# Altium footprint library CONN_W2B_JST.PcbLib: 168 footprints (part 5 of 11)
Each footprint in its own frame and in the unit in brackets; x right, y up, seen from the top. Pads: shape width x height; smd on the part's side, far side on the other; paste and mask are expansions set on the pad; w line width, h text height; cw(c..) or ccw(c..) is an arc to the next point about the centre after c.
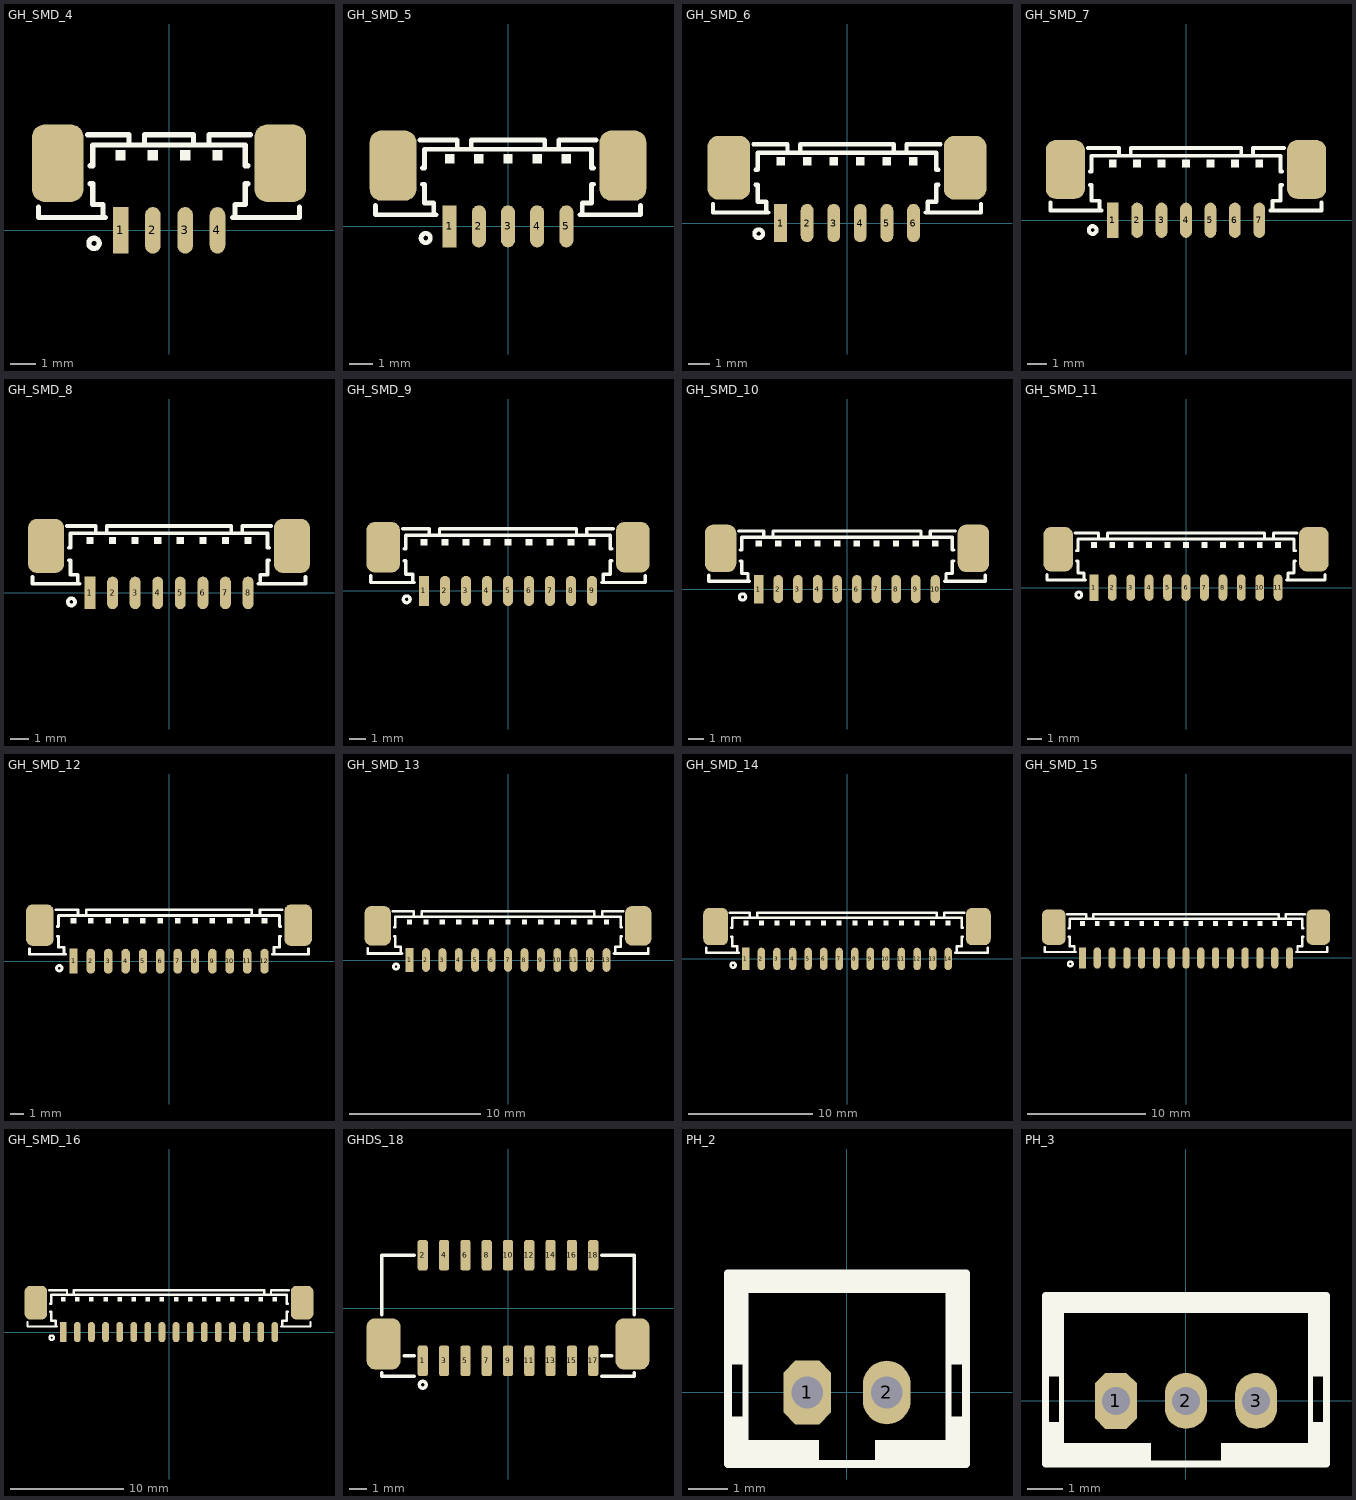
[diagram p4: the footprints below, top view; thin cyan lines are the x and y axes]

## GH_SMD_4 [mm] "JST GH Series, pitch: 1.25mm, 1.0A/50v, SMD"
pads (6):
  rect 0.6x1.8 smd: 1(-1.875,0)
  oval 0.6x1.8 smd: 2(-0.625,0) 3(0.625,0) 4(1.875,0)
  rrect50% 2x3 smd: ""(-4.3,2.6) ""(4.3,2.6)
Top Overlay:
  circle w0.2: c-2.9,-0.5 r0.2
  rectangle: 1.675,2.7 2.075,3.1
  rectangle: 0.425,2.7 0.825,3.1
  rectangle: -0.825,2.7 -0.425,3.1
  rectangle: -2.075,2.7 -1.675,3.1
  lines w0.2: -5.05,0.9 -5.05,0.5 -2.45,0.5 ; -3.15,3.7 -1.55,3.7 -1.55,3.3 ; -3.05,1.8 -2.95,1.8 -2.95,1 -2.55,1 -2.55,0.5 ; -3.05,2.5 -2.95,2.5 -2.95,3.3 2.95,3.3 2.95,2.5 3.05,2.5 ; -0.95,3.3 -0.95,3.7 0.95,3.7 0.95,3.3 ; 1.55,3.3 1.55,3.7 3.15,3.7 ; 2.45,0.5 5.05,0.5 5.05,0.9 ; 2.55,0.5 2.55,1 2.95,1 2.95,1.8 3.05,1.8
3D body "JST - GH - SMD (V) - 4Pin - 1.25mm.stp": height 4.66, standoff 0, extent -4.974,-0.592 4.974,3.649

## GH_SMD_5 [mm] "JST GH Series, pitch: 1.25mm, 1.0A/50v, SMD"
pads (7):
  rect 0.6x1.8 smd: 1(-2.5,0)
  oval 0.6x1.8 smd: 2(-1.25,0) 3(0,0) 4(1.25,0) 5(2.5,0)
  rrect50% 2x3 smd: ""(-4.925,2.6) ""(4.925,2.6)
Top Overlay:
  circle w0.2: c-3.525,-0.5 r0.2
  rectangle: -2.7,2.7 -2.3,3.1
  rectangle: -1.45,2.7 -1.05,3.1
  rectangle: -0.2,2.7 0.2,3.1
  rectangle: 1.05,2.7 1.45,3.1
  rectangle: 2.3,2.7 2.7,3.1
  lines w0.2: -5.675,0.9 -5.675,0.5 -3.075,0.5 ; -3.775,3.7 -2.175,3.7 -2.175,3.3 ; -3.675,1.8 -3.575,1.8 -3.575,1 -3.175,1 -3.175,0.5 ; -3.675,2.5 -3.575,2.5 -3.575,3.3 3.575,3.3 3.575,2.5 3.675,2.5 ; -1.575,3.3 -1.575,3.7 1.575,3.7 1.575,3.3 ; 2.175,3.3 2.175,3.7 3.775,3.7 ; 3.075,0.5 5.675,0.5 5.675,0.9 ; 3.175,0.5 3.175,1 3.575,1 3.575,1.8 3.675,1.8
3D body "JST - GH - SMD (V) - 5Pin - 1.25mm.stp": height 4.66, standoff 0, extent -5.599,-0.592 5.599,3.649

## GH_SMD_6 [mm] "JST GH Series, pitch: 1.25mm, 1.0A/50v, SMD"
pads (8):
  rect 0.6x1.8 smd: 1(-3.125,0)
  oval 0.6x1.8 smd: 2(-1.875,0) 3(-0.625,0) 4(0.625,0) 5(1.875,0) 6(3.125,0)
  rrect50% 2x3 smd: ""(-5.55,2.6) ""(5.55,2.6)
Top Overlay:
  circle w0.2: c-4.15,-0.5 r0.2
  rectangle: 2.925,2.7 3.325,3.1
  rectangle: 1.675,2.7 2.075,3.1
  rectangle: 0.425,2.7 0.825,3.1
  rectangle: -0.825,2.7 -0.425,3.1
  rectangle: -2.075,2.7 -1.675,3.1
  rectangle: -3.325,2.7 -2.925,3.1
  lines w0.2: -6.3,0.9 -6.3,0.5 -3.7,0.5 ; -4.4,3.7 -2.8,3.7 -2.8,3.3 ; -4.3,1.8 -4.2,1.8 -4.2,1 -3.8,1 -3.8,0.5 ; -4.3,2.5 -4.2,2.5 -4.2,3.3 4.2,3.3 4.2,2.5 4.3,2.5 ; -2.2,3.3 -2.2,3.7 2.2,3.7 2.2,3.3 ; 2.8,3.3 2.8,3.7 4.4,3.7 ; 3.7,0.5 6.3,0.5 6.3,0.9 ; 3.8,0.5 3.8,1 4.2,1 4.2,1.8 4.3,1.8
3D body "JST - GH - SMD (V) - 6Pin - 1.25mm.stp": height 4.66, standoff 0, extent -6.224,-0.592 6.224,3.649

## GH_SMD_7 [mm] "JST GH Series, pitch: 1.25mm, 1.0A/50v, SMD"
pads (9):
  rect 0.6x1.8 smd: 1(-3.75,0)
  oval 0.6x1.8 smd: 2(-2.5,0) 3(-1.25,0) 4(0,0) 5(1.25,0) 6(2.5,0) 7(3.75,0)
  rrect50% 2x3 smd: ""(-6.175,2.6) ""(6.175,2.6)
Top Overlay:
  circle w0.2: c-4.775,-0.5 r0.2
  rectangle: -3.95,2.7 -3.55,3.1
  rectangle: -2.7,2.7 -2.3,3.1
  rectangle: -1.45,2.7 -1.05,3.1
  rectangle: -0.2,2.7 0.2,3.1
  rectangle: 1.05,2.7 1.45,3.1
  rectangle: 2.3,2.7 2.7,3.1
  rectangle: 3.55,2.7 3.95,3.1
  lines w0.2: -6.925,0.9 -6.925,0.5 -4.325,0.5 ; -5.025,3.7 -3.425,3.7 -3.425,3.3 ; -4.925,1.8 -4.825,1.8 -4.825,1 -4.425,1 -4.425,0.5 ; -4.925,2.5 -4.825,2.5 -4.825,3.3 4.825,3.3 4.825,2.5 4.925,2.5 ; -2.825,3.3 -2.825,3.7 2.825,3.7 2.825,3.3 ; 3.425,3.3 3.425,3.7 5.025,3.7 ; 4.325,0.5 6.925,0.5 6.925,0.9 ; 4.425,0.5 4.425,1 4.825,1 4.825,1.8 4.925,1.8
3D body "JST - GH - SMD (V) - 7Pin - 1.25mm.stp": height 4.66, standoff 0, extent -6.849,-0.592 6.849,3.649

## GH_SMD_8 [mm] "JST GH Series, pitch: 1.25mm, 1.0A/50v, SMD"
pads (10):
  rect 0.6x1.8 smd: 1(-4.375,0)
  oval 0.6x1.8 smd: 2(-3.125,0) 3(-1.875,0) 4(-0.625,0) 5(0.625,0) 6(1.875,0) 7(3.125,0) 8(4.375,0)
  rrect50% 2x3 smd: ""(-6.8,2.6) ""(6.8,2.6)
Top Overlay:
  circle w0.2: c-5.4,-0.5 r0.2
  rectangle: 4.175,2.7 4.575,3.1
  rectangle: 2.925,2.7 3.325,3.1
  rectangle: 1.675,2.7 2.075,3.1
  rectangle: 0.425,2.7 0.825,3.1
  rectangle: -0.825,2.7 -0.425,3.1
  rectangle: -2.075,2.7 -1.675,3.1
  rectangle: -3.325,2.7 -2.925,3.1
  rectangle: -4.575,2.7 -4.175,3.1
  lines w0.2: -7.55,0.9 -7.55,0.5 -4.95,0.5 ; -5.65,3.7 -4.05,3.7 -4.05,3.3 ; -5.55,1.8 -5.45,1.8 -5.45,1 -5.05,1 -5.05,0.5 ; -5.55,2.5 -5.45,2.5 -5.45,3.3 5.45,3.3 5.45,2.5 5.55,2.5 ; -3.45,3.3 -3.45,3.7 3.45,3.7 3.45,3.3 ; 4.05,3.3 4.05,3.7 5.65,3.7 ; 4.95,0.5 7.55,0.5 7.55,0.9 ; 5.05,0.5 5.05,1 5.45,1 5.45,1.8 5.55,1.8
3D body "JST - GH - SMD (V) - 8Pin - 1.25mm.stp": height 4.66, standoff 0, extent -7.474,-0.592 7.474,3.649

## GH_SMD_9 [mm] "JST GH Series, pitch: 1.25mm, 1.0A/50v, SMD"
pads (11):
  rect 0.6x1.8 smd: 1(-5,0)
  oval 0.6x1.8 smd: 2(-3.75,0) 3(-2.5,0) 4(-1.25,0) 5(0,0) 6(1.25,0) 7(2.5,0) 8(3.75,0) 9(5,0)
  rrect50% 2x3 smd: ""(-7.425,2.6) ""(7.425,2.6)
Top Overlay:
  circle w0.2: c-6.025,-0.5 r0.2
  rectangle: -5.2,2.7 -4.8,3.1
  rectangle: -3.95,2.7 -3.55,3.1
  rectangle: -2.7,2.7 -2.3,3.1
  rectangle: -1.45,2.7 -1.05,3.1
  rectangle: -0.2,2.7 0.2,3.1
  rectangle: 1.05,2.7 1.45,3.1
  rectangle: 2.3,2.7 2.7,3.1
  rectangle: 3.55,2.7 3.95,3.1
  rectangle: 4.8,2.7 5.2,3.1
  lines w0.2: -8.175,0.9 -8.175,0.5 -5.575,0.5 ; -6.275,3.7 -4.675,3.7 -4.675,3.3 ; -6.175,1.8 -6.075,1.8 -6.075,1 -5.675,1 -5.675,0.5 ; -6.175,2.5 -6.075,2.5 -6.075,3.3 6.075,3.3 6.075,2.5 6.175,2.5 ; -4.075,3.3 -4.075,3.7 4.075,3.7 4.075,3.3 ; 4.675,3.3 4.675,3.7 6.275,3.7 ; 5.575,0.5 8.175,0.5 8.175,0.9 ; 5.675,0.5 5.675,1 6.075,1 6.075,1.8 6.175,1.8
3D body "JST - GH - SMD (V) - 9Pin - 1.25mm.stp": height 4.66, standoff 0, extent -8.099,-0.592 8.099,3.649

## GH_SMD_10 [mm] "JST GH Series, pitch: 1.25mm, 1.0A/50v, SMD"
pads (12):
  rect 0.6x1.8 smd: 1(-5.625,0)
  oval 0.6x1.8 smd: 2(-4.375,0) 3(-3.125,0) 4(-1.875,0) 5(-0.625,0) 6(0.625,0) 7(1.875,0) 8(3.125,0) 9(4.375,0) 10(5.625,0)
  rrect50% 2x3 smd: ""(-8.05,2.6) ""(8.05,2.6)
Top Overlay:
  circle w0.2: c-6.65,-0.5 r0.2
  rectangle: 5.425,2.7 5.825,3.1
  rectangle: 4.175,2.7 4.575,3.1
  rectangle: 2.925,2.7 3.325,3.1
  rectangle: 1.675,2.7 2.075,3.1
  rectangle: 0.425,2.7 0.825,3.1
  rectangle: -0.825,2.7 -0.425,3.1
  rectangle: -2.075,2.7 -1.675,3.1
  rectangle: -3.325,2.7 -2.925,3.1
  rectangle: -4.575,2.7 -4.175,3.1
  rectangle: -5.825,2.7 -5.425,3.1
  lines w0.2: -8.8,0.9 -8.8,0.5 -6.2,0.5 ; -6.9,3.7 -5.3,3.7 -5.3,3.3 ; -6.8,1.8 -6.7,1.8 -6.7,1 -6.3,1 -6.3,0.5 ; -6.8,2.5 -6.7,2.5 -6.7,3.3 6.7,3.3 6.7,2.5 6.8,2.5 ; -4.7,3.3 -4.7,3.7 4.7,3.7 4.7,3.3 ; 5.3,3.3 5.3,3.7 6.9,3.7 ; 6.2,0.5 8.8,0.5 8.8,0.9 ; 6.3,0.5 6.3,1 6.7,1 6.7,1.8 6.8,1.8
3D body "JST - GH - SMD (V) - 10Pin - 1.25mm.stp": height 4.66, standoff 0, extent -8.724,-0.592 8.724,3.649

## GH_SMD_11 [mm] "JST GH Series, pitch: 1.25mm, 1.0A/50v, SMD"
pads (13):
  rect 0.6x1.8 smd: 1(-6.25,0)
  oval 0.6x1.8 smd: 2(-5,0) 3(-3.75,0) 4(-2.5,0) 5(-1.25,0) 6(0,0) 7(1.25,0) 8(2.5,0) 9(3.75,0) 10(5,0) 11(6.25,0)
  rrect50% 2x3 smd: ""(-8.675,2.6) ""(8.675,2.6)
Top Overlay:
  circle w0.2: c-7.275,-0.5 r0.2
  rectangle: -6.45,2.7 -6.05,3.1
  rectangle: -5.2,2.7 -4.8,3.1
  rectangle: -3.95,2.7 -3.55,3.1
  rectangle: -2.7,2.7 -2.3,3.1
  rectangle: -1.45,2.7 -1.05,3.1
  rectangle: -0.2,2.7 0.2,3.1
  rectangle: 1.05,2.7 1.45,3.1
  rectangle: 2.3,2.7 2.7,3.1
  rectangle: 3.55,2.7 3.95,3.1
  rectangle: 4.8,2.7 5.2,3.1
  rectangle: 6.05,2.7 6.45,3.1
  lines w0.2: -9.425,0.9 -9.425,0.5 -6.825,0.5 ; -7.525,3.7 -5.925,3.7 -5.925,3.3 ; -7.425,1.8 -7.325,1.8 -7.325,1 -6.925,1 -6.925,0.5 ; -7.425,2.5 -7.325,2.5 -7.325,3.3 7.325,3.3 7.325,2.5 7.425,2.5 ; -5.325,3.3 -5.325,3.7 5.325,3.7 5.325,3.3 ; 5.925,3.3 5.925,3.7 7.525,3.7 ; 6.825,0.5 9.425,0.5 9.425,0.9 ; 6.925,0.5 6.925,1 7.325,1 7.325,1.8 7.425,1.8
3D body "JST - GH - SMD (V) - 11Pin - 1.25mm.stp": height 4.66, standoff 0, extent -9.348,-0.592 9.348,3.649

## GH_SMD_12 [mm] "JST GH Series, pitch: 1.25mm, 1.0A/50v, SMD"
pads (14):
  rect 0.6x1.8 smd: 1(-6.875,0)
  oval 0.6x1.8 smd: 2(-5.625,0) 3(-4.375,0) 4(-3.125,0) 5(-1.875,0) 6(-0.625,0) 7(0.625,0) 8(1.875,0) 9(3.125,0) 10(4.375,0) 11(5.625,0) 12(6.875,0)
  rrect50% 2x3 smd: ""(-9.3,2.6) ""(9.3,2.6)
Top Overlay:
  circle w0.2: c-7.9,-0.5 r0.2
  rectangle: 6.675,2.7 7.075,3.1
  rectangle: 5.425,2.7 5.825,3.1
  rectangle: 4.175,2.7 4.575,3.1
  rectangle: 2.925,2.7 3.325,3.1
  rectangle: 1.675,2.7 2.075,3.1
  rectangle: 0.425,2.7 0.825,3.1
  rectangle: -0.825,2.7 -0.425,3.1
  rectangle: -2.075,2.7 -1.675,3.1
  rectangle: -3.325,2.7 -2.925,3.1
  rectangle: -4.575,2.7 -4.175,3.1
  rectangle: -5.825,2.7 -5.425,3.1
  rectangle: -7.075,2.7 -6.675,3.1
  lines w0.2: -10.05,0.9 -10.05,0.5 -7.45,0.5 ; -8.15,3.7 -6.55,3.7 -6.55,3.3 ; -8.05,1.8 -7.95,1.8 -7.95,1 -7.55,1 -7.55,0.5 ; -8.05,2.5 -7.95,2.5 -7.95,3.3 7.95,3.3 7.95,2.5 8.05,2.5 ; -5.95,3.3 -5.95,3.7 5.95,3.7 5.95,3.3 ; 6.55,3.3 6.55,3.7 8.15,3.7 ; 7.45,0.5 10.05,0.5 10.05,0.9 ; 7.55,0.5 7.55,1 7.95,1 7.95,1.8 8.05,1.8
3D body "JST - GH - SMD (V) - 12Pin - 1.25mm.stp": height 4.66, standoff 0, extent -9.973,-0.592 9.973,3.649

## GH_SMD_13 [mm] "JST GH Series, pitch: 1.25mm, 1.0A/50v, SMD"
pads (15):
  rect 0.6x1.8 smd: 1(-7.5,0)
  oval 0.6x1.8 smd: 2(-6.25,0) 3(-5,0) 4(-3.75,0) 5(-2.5,0) 6(-1.25,0) 7(0,0) 8(1.25,0) 9(2.5,0) 10(3.75,0) 11(5,0) 12(6.25,0) 13(7.5,0)
  rrect50% 2x3 smd: ""(-9.925,2.6) ""(9.925,2.6)
Top Overlay:
  circle w0.2: c-8.525,-0.5 r0.2
  rectangle: 7.3,2.7 7.7,3.1
  rectangle: 6.05,2.7 6.45,3.1
  rectangle: 4.8,2.7 5.2,3.1
  rectangle: 3.55,2.7 3.95,3.1
  rectangle: 2.3,2.7 2.7,3.1
  rectangle: 1.05,2.7 1.45,3.1
  rectangle: -0.2,2.7 0.2,3.1
  rectangle: -1.45,2.7 -1.05,3.1
  rectangle: -2.7,2.7 -2.3,3.1
  rectangle: -3.95,2.7 -3.55,3.1
  rectangle: -5.2,2.7 -4.8,3.1
  rectangle: -6.45,2.7 -6.05,3.1
  rectangle: -7.7,2.7 -7.3,3.1
  lines w0.2: -10.675,0.9 -10.675,0.5 -8.075,0.5 ; -8.775,3.7 -7.175,3.7 -7.175,3.3 ; -8.675,1.8 -8.575,1.8 -8.575,1 -8.175,1 -8.175,0.5 ; -8.675,2.5 -8.575,2.5 -8.575,3.3 8.575,3.3 8.575,2.5 8.675,2.5 ; -6.575,3.3 -6.575,3.7 6.575,3.7 6.575,3.3 ; 7.175,3.3 7.175,3.7 8.775,3.7 ; 8.075,0.5 10.675,0.5 10.675,0.9 ; 8.175,0.5 8.175,1 8.575,1 8.575,1.8 8.675,1.8
3D body "JST - GH - SMD (V) - 13Pin - 1.25mm.stp": height 4.66, standoff 0, extent -10.598,-0.592 10.598,3.649

## GH_SMD_14 [mm] "JST GH Series, pitch: 1.25mm, 1.0A/50v, SMD"
pads (16):
  rect 0.6x1.8 smd: 1(-8.125,0)
  oval 0.6x1.8 smd: 2(-6.875,0) 3(-5.625,0) 4(-4.375,0) 5(-3.125,0) 6(-1.875,0) 7(-0.625,0) 8(0.625,0) 9(1.875,0) 10(3.125,0) 11(4.375,0) 12(5.625,0) 13(6.875,0) 14(8.125,0)
  rrect50% 2x3 smd: ""(-10.55,2.6) ""(10.55,2.6)
Top Overlay:
  circle w0.2: c-9.15,-0.5 r0.2
  rectangle: 7.925,2.7 8.325,3.1
  rectangle: 6.675,2.7 7.075,3.1
  rectangle: 5.425,2.7 5.825,3.1
  rectangle: 4.175,2.7 4.575,3.1
  rectangle: 2.925,2.7 3.325,3.1
  rectangle: 1.675,2.7 2.075,3.1
  rectangle: 0.425,2.7 0.825,3.1
  rectangle: -0.825,2.7 -0.425,3.1
  rectangle: -2.075,2.7 -1.675,3.1
  rectangle: -3.325,2.7 -2.925,3.1
  rectangle: -4.575,2.7 -4.175,3.1
  rectangle: -5.825,2.7 -5.425,3.1
  rectangle: -7.075,2.7 -6.675,3.1
  rectangle: -8.325,2.7 -7.925,3.1
  lines w0.2: -11.3,0.9 -11.3,0.5 -8.7,0.5 ; -9.4,3.7 -7.8,3.7 -7.8,3.3 ; -9.3,1.8 -9.2,1.8 -9.2,1 -8.8,1 -8.8,0.5 ; -9.3,2.5 -9.2,2.5 -9.2,3.3 9.2,3.3 9.2,2.5 9.3,2.5 ; -7.2,3.3 -7.2,3.7 7.2,3.7 7.2,3.3 ; 7.8,3.3 7.8,3.7 9.4,3.7 ; 8.7,0.5 11.3,0.5 11.3,0.9 ; 8.8,0.5 8.8,1 9.2,1 9.2,1.8 9.3,1.8
3D body "JST - GH - SMD (V) - 14Pin - 1.25mm.stp": height 4.66, standoff 0, extent -11.223,-0.592 11.223,3.649

## GH_SMD_15 [mm] "JST GH Series, pitch: 1.25mm, 1.0A/50v, SMD"
pads (17):
  rect 0.6x1.8 smd: 1(-8.75,0)
  oval 0.6x1.8 smd: 2(-7.5,0) 3(-6.25,0) 4(-5,0) 5(-3.75,0) 6(-2.5,0) 7(-1.25,0) 8(0,0) 9(1.25,0) 10(2.5,0) 11(3.75,0) 12(5,0) 13(6.25,0) 14(7.5,0) 15(8.75,0)
  rrect50% 2x3 smd: ""(-11.175,2.6) ""(11.175,2.6)
Top Overlay:
  circle w0.2: c-9.775,-0.5 r0.2
  rectangle: -8.95,2.7 -8.55,3.1
  rectangle: -7.7,2.7 -7.3,3.1
  rectangle: -6.45,2.7 -6.05,3.1
  rectangle: -5.2,2.7 -4.8,3.1
  rectangle: -3.95,2.7 -3.55,3.1
  rectangle: -2.7,2.7 -2.3,3.1
  rectangle: -1.45,2.7 -1.05,3.1
  rectangle: -0.2,2.7 0.2,3.1
  rectangle: 1.05,2.7 1.45,3.1
  rectangle: 2.3,2.7 2.7,3.1
  rectangle: 3.55,2.7 3.95,3.1
  rectangle: 4.8,2.7 5.2,3.1
  rectangle: 6.05,2.7 6.45,3.1
  rectangle: 7.3,2.7 7.7,3.1
  rectangle: 8.55,2.7 8.95,3.1
  lines w0.2: -11.925,0.9 -11.925,0.5 -9.325,0.5 ; -10.025,3.7 -8.425,3.7 -8.425,3.3 ; -9.925,1.8 -9.825,1.8 -9.825,1 -9.425,1 -9.425,0.5 ; -9.925,2.5 -9.825,2.5 -9.825,3.3 9.825,3.3 9.825,2.5 9.925,2.5 ; -7.825,3.3 -7.825,3.7 7.825,3.7 7.825,3.3 ; 8.425,3.3 8.425,3.7 10.025,3.7 ; 9.325,0.5 11.925,0.5 11.925,0.9 ; 9.425,0.5 9.425,1 9.825,1 9.825,1.8 9.925,1.8
3D body "JST - GH - SMD (V) - 15Pin - 1.25mm.stp": height 4.66, standoff 0, extent -11.848,-0.592 11.848,3.649

## GH_SMD_16 [mm] "JST GH Series, pitch: 1.25mm, 1.0A/50v, SMD"
pads (18):
  rect 0.6x1.8 smd: 1(-9.375,0)
  oval 0.6x1.8 smd: 2(-8.125,0) 3(-6.875,0) 4(-5.625,0) 5(-4.375,0) 6(-3.125,0) 7(-1.875,0) 8(-0.625,0) 9(0.625,0) 10(1.875,0) 11(3.125,0) 12(4.375,0) 13(5.625,0) 14(6.875,0) 15(8.125,0) 16(9.375,0)
  rrect50% 2x3 smd: ""(-11.8,2.6) ""(11.8,2.6)
Top Overlay:
  circle w0.2: c-10.4,-0.5 r0.2
  rectangle: 9.175,2.7 9.575,3.1
  rectangle: 7.925,2.7 8.325,3.1
  rectangle: 6.675,2.7 7.075,3.1
  rectangle: 5.425,2.7 5.825,3.1
  rectangle: 4.175,2.7 4.575,3.1
  rectangle: 2.925,2.7 3.325,3.1
  rectangle: 1.675,2.7 2.075,3.1
  rectangle: 0.425,2.7 0.825,3.1
  rectangle: -0.825,2.7 -0.425,3.1
  rectangle: -2.075,2.7 -1.675,3.1
  rectangle: -3.325,2.7 -2.925,3.1
  rectangle: -4.575,2.7 -4.175,3.1
  rectangle: -5.825,2.7 -5.425,3.1
  rectangle: -7.075,2.7 -6.675,3.1
  rectangle: -8.325,2.7 -7.925,3.1
  rectangle: -9.575,2.7 -9.175,3.1
  lines w0.2: -12.55,0.9 -12.55,0.5 -9.95,0.5 ; -10.65,3.7 -9.05,3.7 -9.05,3.3 ; -10.55,1.8 -10.45,1.8 -10.45,1 -10.05,1 -10.05,0.5 ; -10.55,2.5 -10.45,2.5 -10.45,3.3 10.45,3.3 10.45,2.5 10.55,2.5 ; -8.45,3.3 -8.45,3.7 8.45,3.7 8.45,3.3 ; 9.05,3.3 9.05,3.7 10.65,3.7 ; 9.95,0.5 12.55,0.5 12.55,0.9 ; 10.05,0.5 10.05,1 10.45,1 10.45,1.8 10.55,1.8
3D body "JST - GH - SMD (V) - 16Pin - 1.25mm.stp": height 4.66, standoff 0, extent -12.473,-0.592 12.473,3.649

## GHDS_18 [mm] "JST GHD Series, pitch: 1.25mm Dual row, 1.0A/50v"
pads (20):
  rrect50% 0.6x1.8 smd: 1(-5,-3.1) 2(-5,3.1) 3(-3.75,-3.1) 4(-3.75,3.1) 5(-2.5,-3.1) 6(-2.5,3.1) 7(-1.25,-3.1) 8(-1.25,3.1) 9(0,-3.1) 10(0,3.1) 11(1.25,-3.1) 12(1.25,3.1) 13(2.5,-3.1) 14(2.5,3.1) 15(3.75,-3.1) 16(3.75,3.1) 17(5,-3.1) 18(5,3.1)
  rrect50% 2x3 smd: ""(-7.3,-2.1) ""(7.3,-2.1)
Top Overlay:
  circle w0.2: c-5,-4.5 r0.2
  lines w0.2: -7.4,-3.8 -7.4,-4 -5.5,-4 ; -7.4,-0.4 -7.4,3.1 -5.5,3.1 ; -6.1,-2.8 -5.5,-2.8 ; 5.5,-4 7.4,-4 7.4,-3.8 ; 5.5,-2.8 6.1,-2.8 ; 5.5,3.1 7.4,3.1 7.4,-0.4
3D body "BM18B-GHDS-TF.STEP": height 5, standoff 0, extent -7.25,-3.85 7.25,3.5

## PH_2 [mm] "JST PH Series, pitch: 2.0mm, 2.0A/100v"
pads (2):
  oct 1.2x1.6 hole 0.8: 1(-1,0)
  oval 1.2x1.6 hole 0.8: 2(1,0)
Top Overlay:
  region: 3,-0.6 2.5,-0.6 2.5,-1.8 3,-1.8
  region: 3,-1.2 0.7,-1.2 0.7,-1.8 3,-1.8
  region: 3,3 2.5,3 2.5,0.7 3,0.7
  rectangle: -3,-1.8 -2.5,-0.6
  rectangle: -3,-1.8 -0.7,-1.2
  rectangle: -3,0.7 -2.5,3
  region: -3,3 -3,2.5 3,2.5 3,3
  lines w0.15: -2.55,-1.8 -2.55,3 ; 2.55,-1.8 2.55,3
  lines w0.2: -3,-1.8 3,-1.8 3,3 -3,3 -3,-1.8
3D body "JST - PH - Thru (V) - 2Pin - 2.00mm.stp": height 5.89, standoff -3.05, extent -2.93,-1.674 2.93,3

## PH_3 [mm] "JST PH Series, pitch: 2.0mm, 2.0A/100v"
pads (3):
  oct 1.2x1.6 hole 0.8: 1(-2,0)
  oval 1.2x1.6 hole 0.8: 2(0,0) 3(2,0)
Top Overlay:
  region: -4,3 -4,2.5 4,2.5 4,3
  rectangle: -4,0.7 -3.5,3
  rectangle: -4,-1.8 -1,-1.2
  rectangle: -4,-1.8 -3.5,-0.6
  region: 4,3 3.5,3 3.5,0.7 4,0.7
  region: 4,-1.2 1,-1.2 1,-1.8 4,-1.8
  region: 4,-0.6 3.5,-0.6 3.5,-1.8 4,-1.8
  lines w0.15: -3.55,-1.8 -3.55,3 ; 3.55,-1.8 3.55,3
  lines w0.2: -4,-1.8 -4,3 4,3 4,-1.8 -4,-1.8
3D body "JST - PH - Thru (V) - 3Pin - 2.00mm.stp": height 5.89, standoff -3.05, extent -3.93,-1.674 3.93,3